# EAGLE library part 2X3 (library J-HDR2.54mm)
2 X 3 POS HEADER
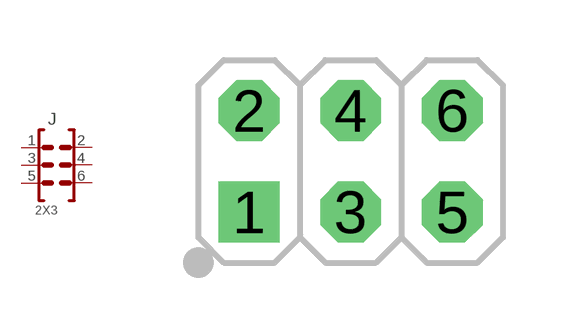
[diagram p2: symbol with the pads of 2X3; footprint 2X3]

Designator prefix J

## 2X3  [2X3]
1  1  pas
2  2  pas
3  3  pas
4  4  pas
5  5  pas
6  6  pas

## Footprint 2X3 (pad centres in mm)
2 X 3 PIN .1" CENTER 0.040 DRILL auto PAD http://www.sullinscorp.com/catalogs/78_Page80-81_HEADER_.100_2.54mm_FEMALE.pdf
drill 1.016 square: 1 0,0
drill 1.016 octagon: 2 0,2.54; 3 2.54,0; 4 2.54,2.54; 5 5.08,0; 6 5.08,2.54